# Altium footprint library 221AMC16R.PcbLib: 1 footprints
Each footprint in its own frame and in the unit in brackets; x right, y up, seen from the top. Pads: shape width x height; smd on the part's side, far side on the other; paste and mask are expansions set on the pad; w line width, h text height; cw(c..) or ccw(c..) is an arc to the next point about the centre after c.
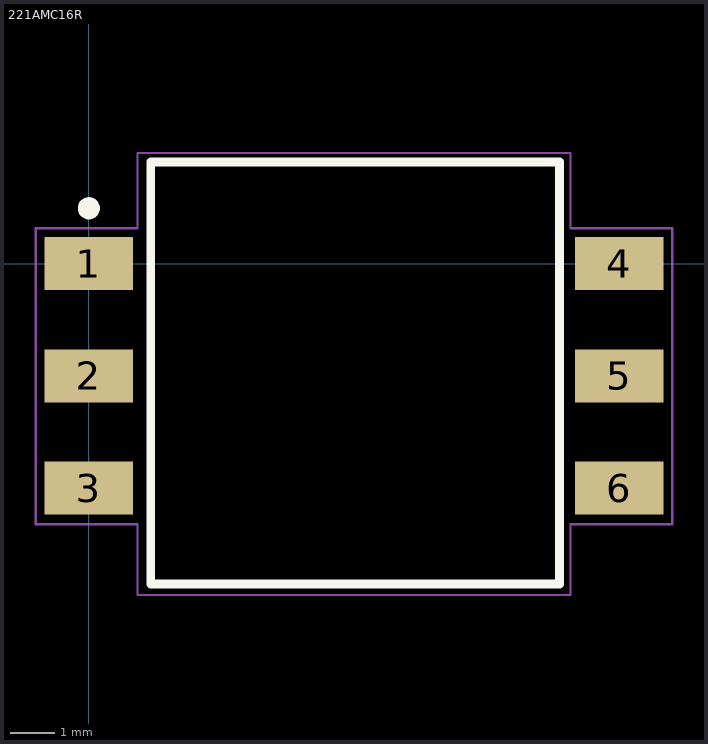
[diagram p0: the footprint, top view; thin cyan lines are the x and y axes]

## 221AMC16R [mm]
pads (6):
  rect 2x1.2 smd: 1(0,0) 2(0,-2.54) 3(0,-5.08) 4(12,0) 5(12,-2.54) 6(12,-5.08)
Top Overlay:
  circle w0.25: c0,1.25 r0.125
  lines w0.2: 1.4,-7.25 1.4,2.3 10.65,2.3 10.65,-7.25 1.4,-7.25
Mechanical 1:
  lines w0.1: 1.4,-7.25 10.65,-7.25 10.65,2.3 1.4,2.3 1.4,-7.25
Mechanical 15:
  lines w0.05: -1.2,-5.9 -1.2,0.8 1.1,0.8 1.1,2.5 10.9,2.5 10.9,0.8 13.2,0.8 13.2,-5.9 10.9,-5.9 10.9,-7.5 1.1,-7.5 1.1,-5.9 -1.2,-5.9